# EAGLE library part MCP602 (library ads4)
Microchip MCP602 dual-channel single-supply rail-to-rail output op-amp
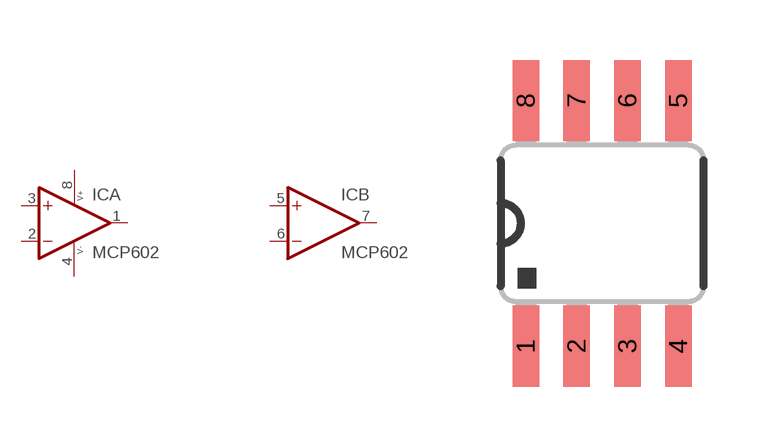
[diagram p71: symbol with the pads of SO08; footprint SO08]

Designator prefix IC; gates A=OPAMP+- B=OPAMP

## MCP602SN  [SO08]
1  A:OUT  out
2  A:-IN  in
3  A:+IN  in
4  A:V-  pwr
5  B:+IN  in
6  B:-IN  in
7  B:OUT  out
8  A:V+  pwr

## Footprint SO08 (pad centres in mm)
SO08 Package from 74xx-us.lbr 0.15" body
smd 0.66 x 2.032: 1 -1.905,-3.073; 2 -0.635,-3.073; 3 0.635,-3.073; 4 1.905,-3.073; 5 1.905,3.073; 6 0.635,3.073; 7 -0.635,3.073; 8 -1.905,3.073